# Altium footprint library 17479811.PcbLib: 1 footprints
Each footprint in its own frame and in the unit in brackets; x right, y up, seen from the top. Pads: shape width x height; smd on the part's side, far side on the other; paste and mask are expansions set on the pad; w line width, h text height; cw(c..) or ccw(c..) is an arc to the next point about the centre after c.
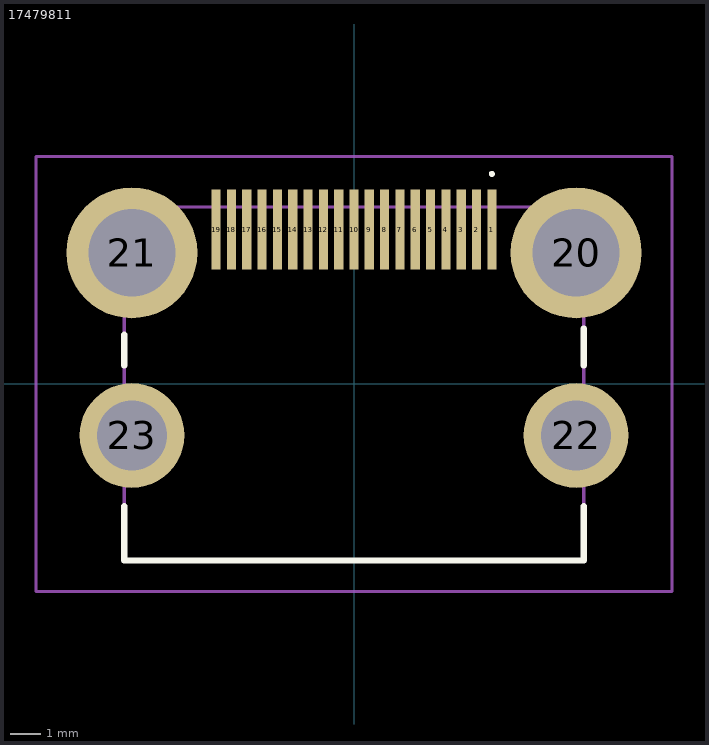
[diagram p0: the footprint, top view; thin cyan lines are the x and y axes]

## 17479811 [mm]
pads (23):
  rect 0.3x2.6 smd: 1(4.5,5.035) 2(4,5.035) 3(3.5,5.035) 4(3,5.035) 5(2.5,5.035) 6(2,5.035) 7(1.5,5.035) 8(1,5.035) 9(0.5,5.035) 10(0,5.035) 11(-0.5,5.035) 12(-1,5.035) 13(-1.5,5.035) 14(-2,5.035) 15(-2.5,5.035) 16(-3,5.035) 17(-3.5,5.035) 18(-4,5.035) 19(-4.5,5.035)
  round 4.275 hole 2.85: 20(7.25,4.275) 21(-7.25,4.275)
  round 3.42 hole 2.28: 22(7.25,-1.685) 23(-7.25,-1.685)
Top Overlay:
  lines w0.1: 4.5,6.8 cw(c4.5,6.85) 4.5,6.9 ; 4.5,6.8 4.5,6.8 ; 4.5,6.8 ccw(c4.5,6.85) 4.5,6.9 ; 4.5,6.9 4.5,6.9
  lines w0.2: -7.5,-4 -7.5,-5.775 7.5,-5.775 7.5,-4 ; -7.5,0.6 -7.5,1.6 ; 7.5,0.6 7.5,1.8
Mechanical 15:
  lines w0.1: -7.5,-5.775 7.5,-5.775 7.5,5.775 -7.5,5.775 -7.5,-5.775
Mechanical 20:
  lines w0.1: -10.387,-6.775 10.387,-6.775 10.387,7.412 -10.387,7.412 -10.387,-6.775